# Altium schematic symbol library LISxxxxx.SchLib: 1 symbol
Pins are listed as number, name and electrical type; pins without a type are passive.

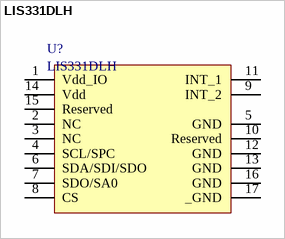
[diagram p0: symbol LIS331DLH]

## LIS331DLH
designator U?
MEMS digital output motion sensor  ultra low-power high performance 3-axes “nano” accelerometer; datasheet: http://www.st.com/internet/com/TECHNICAL_RESOURCES/TECHNICAL_LITERATURE/DATASHEET/CD00213470.pdf
pins: 1 Vdd_IO, 2 NC, 3 NC, 4 SCL/SPC, 5 GND, 6 SDA/SDI/SDO, 7 SDO/SA0 , 8 CS, 9 INT_2, 10 Reserved, 11 INT_1, 12 GND, 13 GND, 14 Vdd, 15 Reserved, 16 GND, 17 _GND